# Altium schematic symbol library adc_highspeed.SchLib: 11 symbols
Pins are listed as number, name and electrical type; pins without a type are passive.

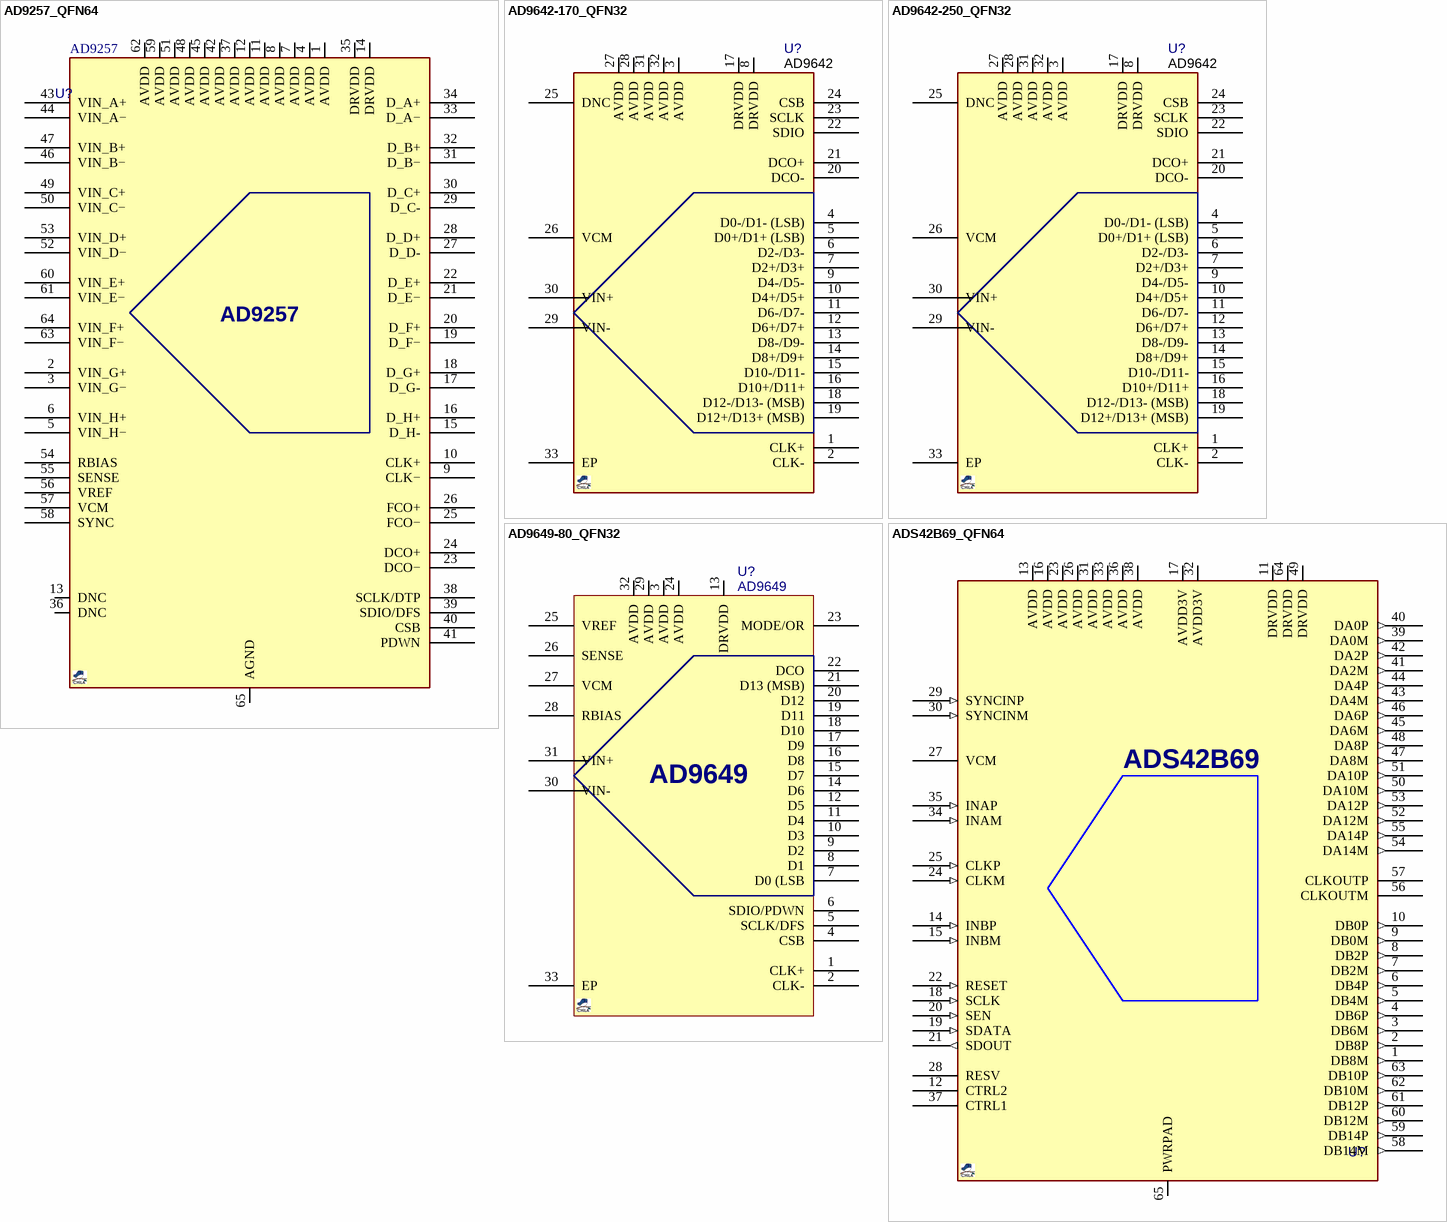
[diagram p0: symbols AD9257_QFN64 to ADS42B69_QFN64]

## AD9257_QFN64
designator U?, comment AD9257
ADC, 14-Bit, 40/65MSPS, 8CH, Serial LVDS, 1.8V, QFN-64; MANF: Analog Devices; MANF_P#: AD9257BCPZ; PARAM: 14-Bit, 40/65 MSPS, 8CH, 650MHz BW; PARAM2: Serial LVDS, 1.8V, 550mW; DIST#: -; PRICE: 76$; VALUE: AD9257
footprint QFN50_64T (LFCSP_VQ, MO-220-VMMD-4, MO-220-WNJR-5(JEDEC), RGC S-PQFP-N64 (TI), 9X9mm, 0.5mm)
pins: 1 AVDD, 2 VIN_G+, 3 VIN_G−, 4 AVDD, 5 VIN_H−, 6 VIN_H+, 7 AVDD, 8 AVDD, 9 CLK−, 10 CLK+, 11 AVDD, 12 AVDD, 13 DNC, 14 DRVDD, 15 D_H-, 16 D_H+, 17 D_G-, 18 D_G+, 19 D_F−, 20 D_F+, 21 D_E−, 22 D_E+, 23 DCO−, 24 DCO+, 25 FCO−, 26 FCO+, 27 D_D-, 28 D_D+, 29 D_C-, 30 D_C+, 31 D_B−, 32 D_B+, 33 D_A−, 34 D_A+, 35 DRVDD, 36 DNC, 37 AVDD, 38 SCLK/DTP, 39 SDIO/DFS, 40 CSB, 41 PDWN, 42 AVDD, 43 VIN_A+, 44 VIN_A−, 45 AVDD, 46 VIN_B−, 47 VIN_B+, 48 AVDD, 49 VIN_C+, 50 VIN_C−, 51 AVDD, 52 VIN_D−, 53 VIN_D+, 54 RBIAS, 55 SENSE, 56 VREF, 57 VCM, 58 SYNC, 59 AVDD, 60 VIN_E+, 61 VIN_E−, 62 AVDD, 63 VIN_F−, 64 VIN_F+, 65 AGND

## AD9642-170_QFN32
designator U?, comment AD9642
ADC, 14-Bit, 170MSPS, Parallel LVDS, 1.8V, QFN-32; MANF: Analog Devices; DESC: DESCRIPTION; MANF_P#: AD9642BCPZ-170; ASSEMBLY: ASSEMBLY; PARAM: 14-Bit, 170MSPS, Parallel LVDS; PRICE: 65$; PARAM2: 1.8V; Value: AD9642
footprint QFN50_32T (QFN, 32, 5X5mm, 0.5mm)
pins: 1 CLK+, 2 CLK-, 3 AVDD, 4 D0-/D1- (LSB), 5 D0+/D1+ (LSB), 6 D2-/D3-, 7 D2+/D3+, 8 DRVDD, 9 D4-/D5-, 10 D4+/D5+, 11 D6-/D7-, 12 D6+/D7+, 13 D8-/D9-, 14 D8+/D9+, 15 D10-/D11-, 16 D10+/D11+, 17 DRVDD, 18 D12-/D13- (MSB), 19 D12+/D13+ (MSB), 20 DCO-, 21 DCO+, 22 SDIO, 23 SCLK, 24 CSB, 25 DNC, 26 VCM, 27 AVDD, 28 AVDD, 29 VIN-, 30 VIN+, 31 AVDD, 32 AVDD, 33 EP

## AD9642-250_QFN32
designator U?, comment AD9642
ADC, 14-Bit, 250MSPS, Parallel LVDS, 1.8V, QFN-32; MANF: Analog Devices; DESC: DESCRIPTION; MANF_P#: AD9642BCPZ-250; PARAM2: 1.8V, 390mW; ASSEMBLY: ASSEMBLY; PARAM: 14-Bit, 250MSPS, Parallel LVDS; PRICE: 110$; Value: AD9642
footprint QFN50_32T (QFN, 32, 5X5mm, 0.5mm)
pins: 1 CLK+, 2 CLK-, 3 AVDD, 4 D0-/D1- (LSB), 5 D0+/D1+ (LSB), 6 D2-/D3-, 7 D2+/D3+, 8 DRVDD, 9 D4-/D5-, 10 D4+/D5+, 11 D6-/D7-, 12 D6+/D7+, 13 D8-/D9-, 14 D8+/D9+, 15 D10-/D11-, 16 D10+/D11+, 17 DRVDD, 18 D12-/D13- (MSB), 19 D12+/D13+ (MSB), 20 DCO-, 21 DCO+, 22 SDIO, 23 SCLK, 24 CSB, 25 DNC, 26 VCM, 27 AVDD, 28 AVDD, 29 VIN-, 30 VIN+, 31 AVDD, 32 AVDD, 33 EP

## AD9649-80_QFN32
designator U?, comment AD9649
ADC, 14-Bit, 80MSPS, Parallel LVDS, 1.8V, QFN-32; MANF_P#: AD9649BCPZ-80; MANF: ANALOG DEVICE; MANF: Analog Devices; PARAM: 14-Bit, 80MSPS, Parallel LVDS, 700MHz; DESC: DESCRIPTION; PARAM2: 1.8V, 87mW; ASSEMBLY: ASSEMBLY; PRICE: 34$; Value: AD9649
footprint QFN50_32T (QFN, 32, 5X5mm, 0.5mm)
pins: 1 CLK+, 2 CLK-, 3 AVDD, 4 CSB, 5 SCLK/DFS, 6 SDIO/PDWN, 7 D0 (LSB, 8 D1, 9 D2, 10 D3, 11 D4, 12 D5, 13 DRVDD, 14 D6, 15 D7, 16 D8, 17 D9, 18 D10, 19 D11, 20 D12, 21 D13 (MSB), 22 DCO, 23 MODE/OR, 24 AVDD, 25 VREF, 26 SENSE, 27 VCM, 28 RBIAS, 29 AVDD, 30 VIN-, 31 VIN+, 32 AVDD, 33 EP

## ADS42B69_QFN64
designator U?, comment ADS42B69  (value not drawn)
ADC, 14-Bit, 250MSPS, 2CH, Parallel LVDS, 1.8V, QFN-64; MANF_P#: ADS42B69IRGC; MANF: TI; PARAM2: 1.8V, 500mW; PARAM: 250 MSPS, 2CH, Parallel LVDS; VALUE: ADS42B69
footprint QFN50_64T (LFCSP_VQ, MO-220-VMMD-4, MO-220-WNJR-5(JEDEC), RGC S-PQFP-N64 (TI), 9X9mm, 0.5mm)
pins: 1 DB8M (out), 2 DB8P (out), 3 DB6M (out), 4 DB6P (out), 5 DB4M (out), 6 DB4P (out), 7 DB2M (out), 8 DB2P (out), 9 DB0M (out), 10 DB0P (out), 11 DRVDD (power), 12 CTRL2, 13 AVDD (power), 14 INBP (in), 15 INBM (in), 16 AVDD (power), 17 AVDD3V (power), 18 SCLK (in), 19 SDATA (in), 20 SEN (in), 21 SDOUT (out), 22 RESET (in), 23 AVDD (power), 24 CLKM (in), 25 CLKP (in), 26 AVDD (power), 27 VCM (power), 28 RESV, 29 SYNCINP (in), 30 SYNCINM (in), 31 AVDD (power), 32 AVDD3V (power), 33 AVDD (power), 34 INAM (in), 35 INAP (in), 36 AVDD (power), 37 CTRL1, 38 AVDD (power), 39 DA0M (out), 40 DA0P (out), 41 DA2M (out), 42 DA2P (out), 43 DA4M (out), 44 DA4P (out), 45 DA6M (out), 46 DA6P (out), 47 DA8M (out), 48 DA8P (out), 49 DRVDD (power), 50 DA10M (out), 51 DA10P (out), 52 DA12M (out), 53 DA12P (out), 54 DA14M (out), 55 DA14P (out), 56 CLKOUTM, 57 CLKOUTP, 58 DB14M (out), 59 DB14P (out), 60 DB12M (out), 61 DB12P (out), 62 DB10M (out), 63 DB10P (out), 64 DRVDD (power), 65 PWRPAD (power)

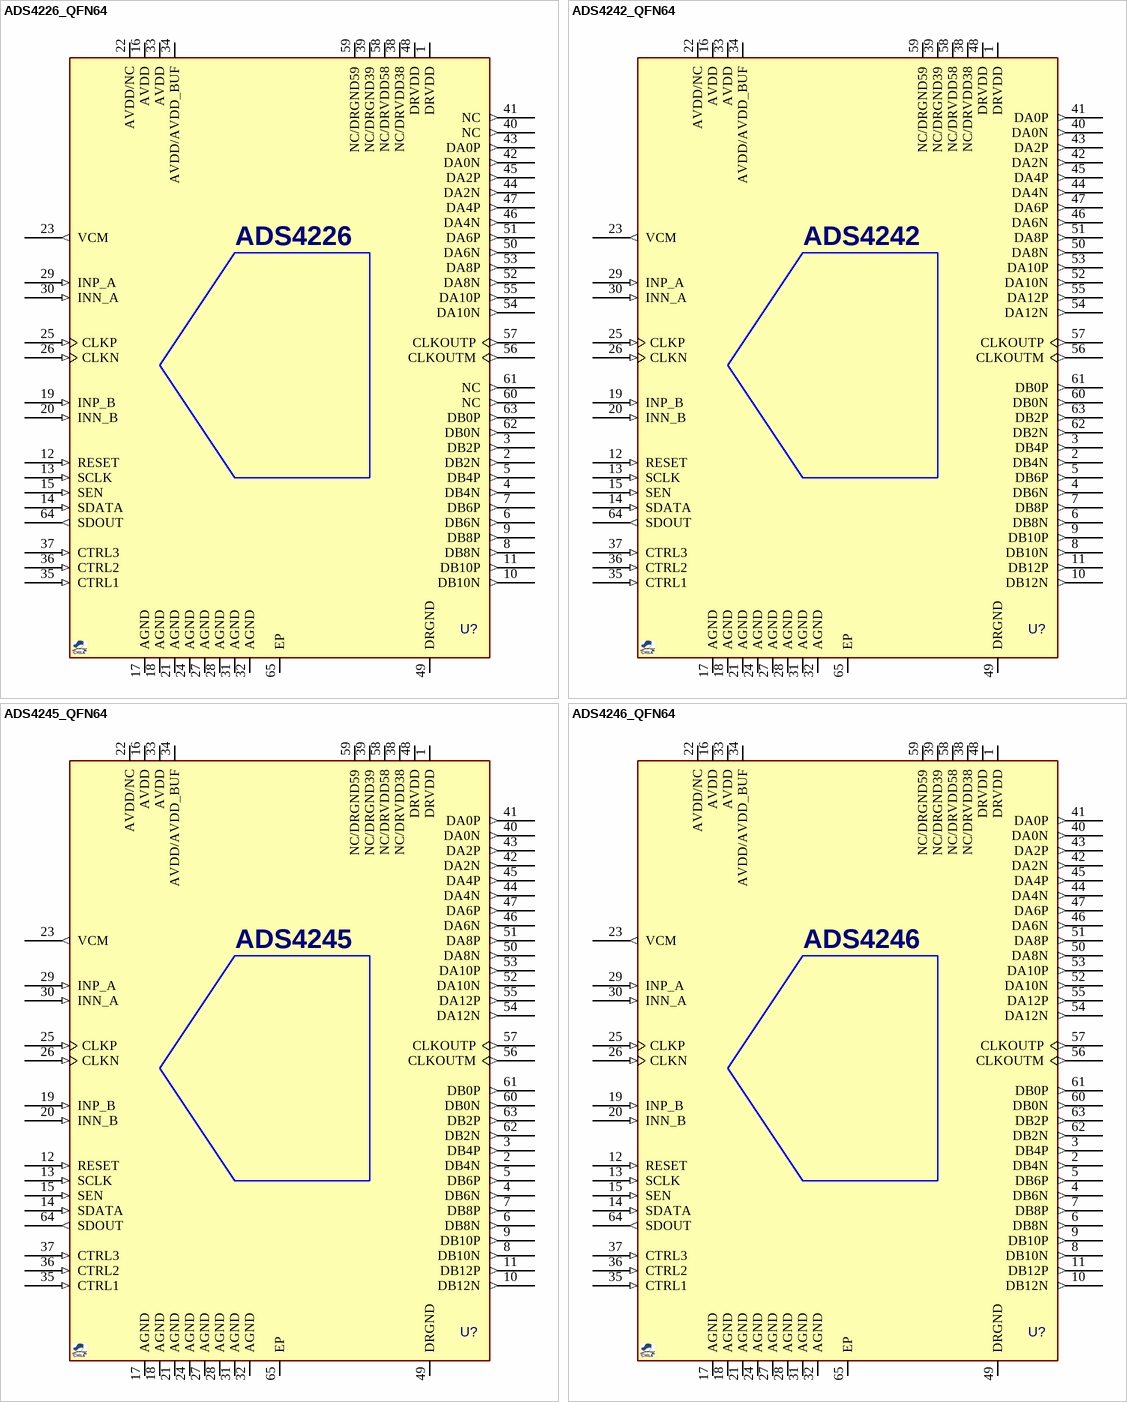
[diagram p1: symbols ADS4226_QFN64 to ADS4246_QFN64]

## ADS4226_QFN64
designator U?, comment ADS4226  (value not drawn)
ADC, 12-Bit, 160MSPS, 2CH, Parallel LVDS, 1.8V, QFN-64; MANF_P#: ADS4226IRGC; MANF: TI; PARAM2: 1.8V, 500mW; PARAM: 160MSPS, 2CH, Parallel LVDS; VALUE: ADS4226
footprint QFN50_64T (LFCSP_VQ, MO-220-VMMD-4, MO-220-WNJR-5(JEDEC), RGC S-PQFP-N64 (TI), 9X9mm, 0.5mm)
pins: 1 DRVDD (power), 2 DB2N (out), 3 DB2P (out), 4 DB4N (out), 5 DB4P (out), 6 DB6N (out), 7 DB6P (out), 8 DB8N (out), 9 DB8P (out), 10 DB10N (out), 11 DB10P (out), 12 RESET (in), 13 SCLK (in), 14 SDATA (in), 15 SEN (in), 16 AVDD (power), 17 AGND (power), 18 AGND (power), 19 INP_B (in), 20 INN_B (in), 21 AGND (power), 22 AVDD/NC, 23 VCM (out), 24 AGND (power), 25 CLKP (in), 26 CLKN (in), 27 AGND (power), 28 AGND (power), 29 INP_A (in), 30 INN_A (in), 31 AGND (power), 32 AGND (power), 33 AVDD (power), 34 AVDD/AVDD_BUF (power), 35 CTRL1 (in), 36 CTRL2 (in), 37 CTRL3 (in), 38 NC/DRVDD38, 39 NC/DRGND39, 40 NC (out), 41 NC (out), 42 DA0N (out), 43 DA0P (out), 44 DA2N (out), 45 DA2P (out), 46 DA4N (out), 47 DA4P (out), 48 DRVDD (power), 49 DRGND (power), 50 DA6N (out), 51 DA6P (out), 52 DA8N (out), 53 DA8P (out), 54 DA10N (out), 55 DA10P (out), 56 CLKOUTM (out), 57 CLKOUTP (out), 58 NC/DRVDD58, 59 NC/DRGND59, 60 NC (out), 61 NC (out), 62 DB0N (out), 63 DB0P (out), 64 SDOUT (out), 65 EP

## ADS4242_QFN64
designator U?, comment ADS4242  (value not drawn)
ADC, 14-Bit, 65MSPS, 2CH, Parallel LVDS, 1.8V, QFN-64; MANF_P#: ADS4242IRGC; MANF: TI; PARAM2: 1.8V, 500mW; PARAM: 65MSPS, 2CH, Parallel LVDS; VALUE: ADS4242
footprint QFN50_64T (LFCSP_VQ, MO-220-VMMD-4, MO-220-WNJR-5(JEDEC), RGC S-PQFP-N64 (TI), 9X9mm, 0.5mm)
pins: 1 DRVDD (power), 2 DB4N (out), 3 DB4P (out), 4 DB6N (out), 5 DB6P (out), 6 DB8N (out), 7 DB8P (out), 8 DB10N (out), 9 DB10P (out), 10 DB12N (out), 11 DB12P (out), 12 RESET (in), 13 SCLK (in), 14 SDATA (in), 15 SEN (in), 16 AVDD (power), 17 AGND (power), 18 AGND (power), 19 INP_B (in), 20 INN_B (in), 21 AGND (power), 22 AVDD/NC, 23 VCM (out), 24 AGND (power), 25 CLKP (in), 26 CLKN (in), 27 AGND (power), 28 AGND (power), 29 INP_A (in), 30 INN_A (in), 31 AGND (power), 32 AGND (power), 33 AVDD (power), 34 AVDD/AVDD_BUF (power), 35 CTRL1 (in), 36 CTRL2 (in), 37 CTRL3 (in), 38 NC/DRVDD38, 39 NC/DRGND39, 40 DA0N (out), 41 DA0P (out), 42 DA2N (out), 43 DA2P (out), 44 DA4N (out), 45 DA4P (out), 46 DA6N (out), 47 DA6P (out), 48 DRVDD (power), 49 DRGND (power), 50 DA8N (out), 51 DA8P (out), 52 DA10N (out), 53 DA10P (out), 54 DA12N (out), 55 DA12P (out), 56 CLKOUTM (out), 57 CLKOUTP (out), 58 NC/DRVDD58, 59 NC/DRGND59, 60 DB0N (out), 61 DB0P (out), 62 DB2N (out), 63 DB2P (out), 64 SDOUT (out), 65 EP

## ADS4245_QFN64
designator U?, comment ADS4245  (value not drawn)
ADC, 14-Bit, 125MSPS, 2CH, Parallel LVDS, 1.8V, QFN-64; MANF_P#: ADS4245IRGC; MANF: TI; PARAM2: 1.8V, 500mW; PARAM: 125MSPS, 2CH, Parallel LVDS; VALUE: ADS4245
footprint QFN50_64T (LFCSP_VQ, MO-220-VMMD-4, MO-220-WNJR-5(JEDEC), RGC S-PQFP-N64 (TI), 9X9mm, 0.5mm)
pins: 1 DRVDD (power), 2 DB4N (out), 3 DB4P (out), 4 DB6N (out), 5 DB6P (out), 6 DB8N (out), 7 DB8P (out), 8 DB10N (out), 9 DB10P (out), 10 DB12N (out), 11 DB12P (out), 12 RESET (in), 13 SCLK (in), 14 SDATA (in), 15 SEN (in), 16 AVDD (power), 17 AGND (power), 18 AGND (power), 19 INP_B (in), 20 INN_B (in), 21 AGND (power), 22 AVDD/NC, 23 VCM (out), 24 AGND (power), 25 CLKP (in), 26 CLKN (in), 27 AGND (power), 28 AGND (power), 29 INP_A (in), 30 INN_A (in), 31 AGND (power), 32 AGND (power), 33 AVDD (power), 34 AVDD/AVDD_BUF (power), 35 CTRL1 (in), 36 CTRL2 (in), 37 CTRL3 (in), 38 NC/DRVDD38, 39 NC/DRGND39, 40 DA0N (out), 41 DA0P (out), 42 DA2N (out), 43 DA2P (out), 44 DA4N (out), 45 DA4P (out), 46 DA6N (out), 47 DA6P (out), 48 DRVDD (power), 49 DRGND (power), 50 DA8N (out), 51 DA8P (out), 52 DA10N (out), 53 DA10P (out), 54 DA12N (out), 55 DA12P (out), 56 CLKOUTM (out), 57 CLKOUTP (out), 58 NC/DRVDD58, 59 NC/DRGND59, 60 DB0N (out), 61 DB0P (out), 62 DB2N (out), 63 DB2P (out), 64 SDOUT (out), 65 EP

## ADS4246_QFN64
designator U?, comment ADS4246  (value not drawn)
ADC, 14-Bit, 160MSPS, 2CH, Parallel LVDS, 1.8V, QFN-64; MANF_P#: ADS4246IRGC; MANF: TI; PARAM2: 1.8V, 500mW; PARAM: 160MSPS, 2CH, Parallel LVDS; VALUE: ADS4246
footprint QFN50_64T (LFCSP_VQ, MO-220-VMMD-4, MO-220-WNJR-5(JEDEC), RGC S-PQFP-N64 (TI), 9X9mm, 0.5mm)
pins: 1 DRVDD (power), 2 DB4N (out), 3 DB4P (out), 4 DB6N (out), 5 DB6P (out), 6 DB8N (out), 7 DB8P (out), 8 DB10N (out), 9 DB10P (out), 10 DB12N (out), 11 DB12P (out), 12 RESET (in), 13 SCLK (in), 14 SDATA (in), 15 SEN (in), 16 AVDD (power), 17 AGND (power), 18 AGND (power), 19 INP_B (in), 20 INN_B (in), 21 AGND (power), 22 AVDD/NC, 23 VCM (out), 24 AGND (power), 25 CLKP (in), 26 CLKN (in), 27 AGND (power), 28 AGND (power), 29 INP_A (in), 30 INN_A (in), 31 AGND (power), 32 AGND (power), 33 AVDD (power), 34 AVDD/AVDD_BUF (power), 35 CTRL1 (in), 36 CTRL2 (in), 37 CTRL3 (in), 38 NC/DRVDD38, 39 NC/DRGND39, 40 DA0N (out), 41 DA0P (out), 42 DA2N (out), 43 DA2P (out), 44 DA4N (out), 45 DA4P (out), 46 DA6N (out), 47 DA6P (out), 48 DRVDD (power), 49 DRGND (power), 50 DA8N (out), 51 DA8P (out), 52 DA10N (out), 53 DA10P (out), 54 DA12N (out), 55 DA12P (out), 56 CLKOUTM (out), 57 CLKOUTP (out), 58 NC/DRVDD58, 59 NC/DRGND59, 60 DB0N (out), 61 DB0P (out), 62 DB2N (out), 63 DB2P (out), 64 SDOUT (out), 65 EP

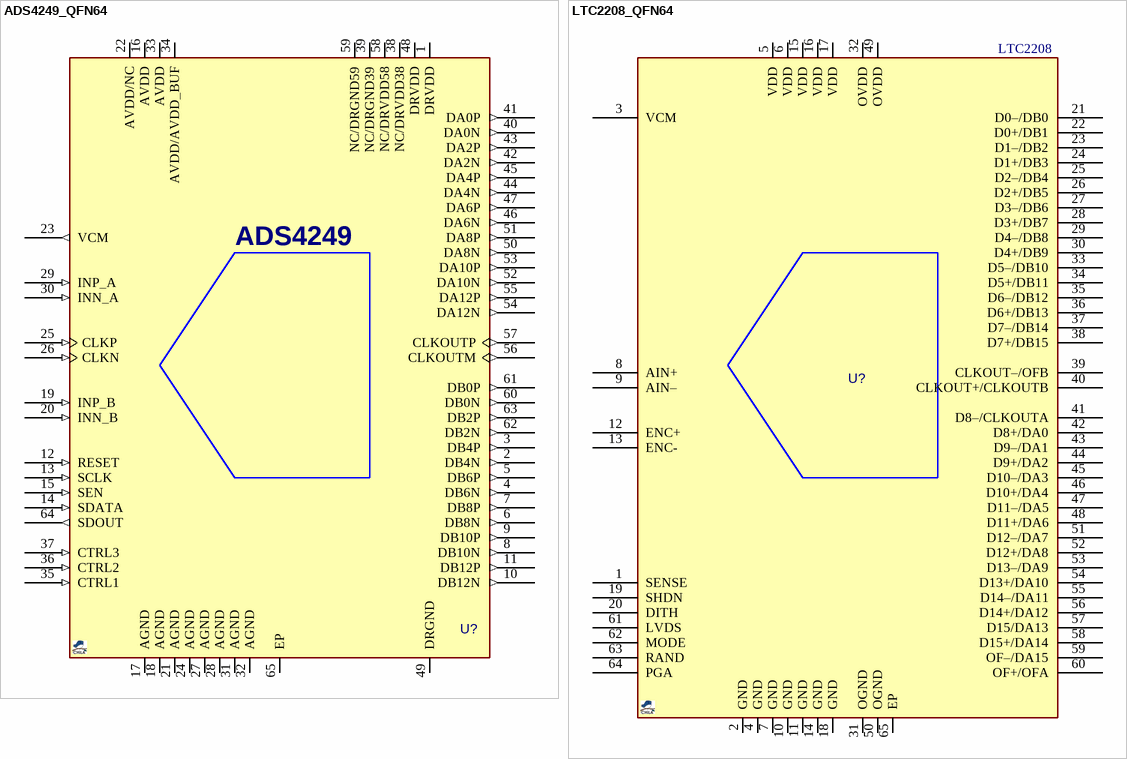
[diagram p2: symbols ADS4249_QFN64 to LTC2208_QFN64]

## ADS4249_QFN64
designator U?, comment ADS4249  (value not drawn)
ADC, 14-Bit, 250MSPS, 2CH, Parallel LVDS, 1.8V, QFN-64; MANF_P#: ADS4249IRGC; MANF: TI; PARAM2: 1.8V, 500mW; PARAM: 250 MSPS, 2CH, Parallel LVDS; VALUE: ADS4249
footprint QFN50_64T (LFCSP_VQ, MO-220-VMMD-4, MO-220-WNJR-5(JEDEC), RGC S-PQFP-N64 (TI), 9X9mm, 0.5mm)
pins: 1 DRVDD (power), 2 DB4N (out), 3 DB4P (out), 4 DB6N (out), 5 DB6P (out), 6 DB8N (out), 7 DB8P (out), 8 DB10N (out), 9 DB10P (out), 10 DB12N (out), 11 DB12P (out), 12 RESET (in), 13 SCLK (in), 14 SDATA (in), 15 SEN (in), 16 AVDD (power), 17 AGND (power), 18 AGND (power), 19 INP_B (in), 20 INN_B (in), 21 AGND (power), 22 AVDD/NC, 23 VCM (out), 24 AGND (power), 25 CLKP (in), 26 CLKN (in), 27 AGND (power), 28 AGND (power), 29 INP_A (in), 30 INN_A (in), 31 AGND (power), 32 AGND (power), 33 AVDD (power), 34 AVDD/AVDD_BUF (power), 35 CTRL1 (in), 36 CTRL2 (in), 37 CTRL3 (in), 38 NC/DRVDD38, 39 NC/DRGND39, 40 DA0N (out), 41 DA0P (out), 42 DA2N (out), 43 DA2P (out), 44 DA4N (out), 45 DA4P (out), 46 DA6N (out), 47 DA6P (out), 48 DRVDD (power), 49 DRGND (power), 50 DA8N (out), 51 DA8P (out), 52 DA10N (out), 53 DA10P (out), 54 DA12N (out), 55 DA12P (out), 56 CLKOUTM (out), 57 CLKOUTP (out), 58 NC/DRVDD58, 59 NC/DRGND59, 60 DB0N (out), 61 DB0P (out), 62 DB2N (out), 63 DB2P (out), 64 SDOUT (out), 65 EP

## LTC2208_QFN64
designator U?, comment LTC2208
ADC, 16-BIT, 130MSPS, 700MHz BW; MANF: Linear Technology; MANF_P#: LTC2208IUP; PARAM2: 3.3V, 1250mW; PARAM: 16-BIT, 130MSPS, 700MHz BW; VALUE: LTC2208
footprint QFN50_64T (LFCSP_VQ, MO-220-VMMD-4, MO-220-WNJR-5(JEDEC), RGC S-PQFP-N64 (TI), 9X9mm, 0.5mm)
pins: 1 SENSE, 2 GND, 3 VCM, 4 GND, 5 VDD, 6 VDD, 7 GND, 8 AIN+, 9 AIN–, 10 GND, 11 GND, 12 ENC+, 13 ENC-, 14 GND, 15 VDD, 16 VDD, 17 VDD, 18 GND, 19 SHDN, 20 DITH, 21 D0–/DB0, 22 D0+/DB1, 23 D1–/DB2, 24 D1+/DB3, 25 D2–/DB4, 26 D2+/DB5, 27 D3–/DB6, 28 D3+/DB7, 29 D4–/DB8, 30 D4+/DB9, 31 OGND, 32 OVDD, 33 D5–/DB10, 34 D5+/DB11, 35 D6–/DB12, 36 D6+/DB13, 37 D7–/DB14, 38 D7+/DB15, 39 CLKOUT–/OFB, 40 CLKOUT+/CLKOUTB, 41 D8–/CLKOUTA, 42 D8+/DA0, 43 D9–/DA1, 44 D9+/DA2, 45 D10–/DA3, 46 D10+/DA4, 47 D11–/DA5, 48 D11+/DA6, 49 OVDD, 50 OGND, 51 D12–/DA7, 52 D12+/DA8, 53 D13–/DA9, 54 D13+/DA10, 55 D14–/DA11, 56 D14+/DA12, 57 D15/DA13, 58 D15+/DA14, 59 OF–/DA15, 60 OF+/OFA, 61 LVDS, 62 MODE, 63 RAND, 64 PGA, 65 EP